# EAGLE library part TLV320AIC3204IRHBT (library LinnesLab-DigitalIC)
Check availability <https://pricing.snapeda.com/parts/TLV320AIC3204IRHBT/Texas%20Instruments/view-part?ref=eda>
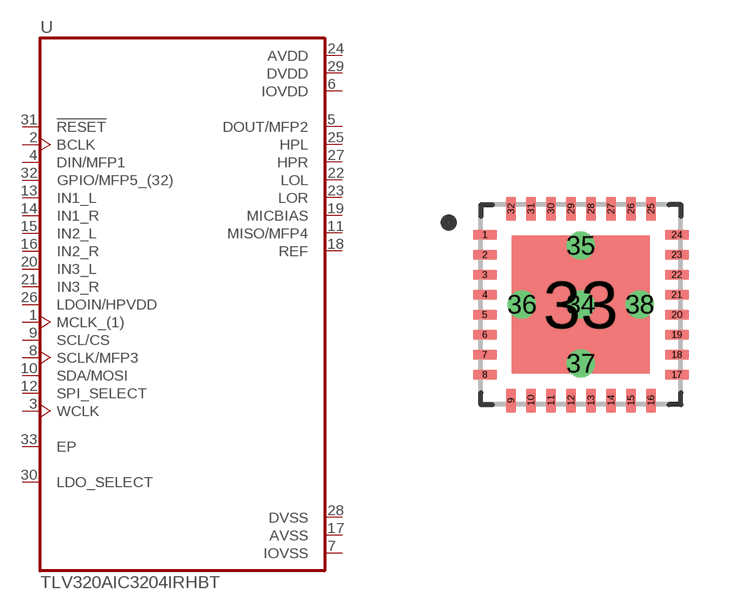
[diagram p29: symbol with the pads of IC_ADS125H01IRHBT; footprint IC_ADS125H01IRHBT]

Designator prefix U

## TLV320AIC3204IRHBT (AVAILABILITY: In Stock; DESCRIPTION: Very-Low-Power Stereo Audio CODEC With PowerTune&trade; Technology; MF: Texas Instruments; MP: TLV320AIC3204IRHBT; PACKAGE: VQFN-32 Texas Instruments; PRICE: None; PURCHASE-URL: https://pricing.snapeda.com/search/part/TLV320AIC3204IRHBT/?ref=eda)  [IC_ADS125H01IRHBT]
1  MCLK_(1)  in
2  BCLK  in
3  WCLK  in
4  DIN/MFP1  in
5  DOUT/MFP2  out
6  IOVDD  pwr
7  IOVSS  pwr
8  SCLK/MFP3  in
9  SCL/CS  in
10  SDA/MOSI  in
11  MISO/MFP4  out
12  SPI_SELECT  in
13  IN1_L  in
14  IN1_R  in
15  IN2_L  in
16  IN2_R  in
17  AVSS  pwr
18  REF  out
19  MICBIAS  out
20  IN3_L  in
21  IN3_R  in
22  LOL  out
23  LOR  out
24  AVDD  pwr
25  HPL  out
26  LDOIN/HPVDD  in
27  HPR  out
28  DVSS  pwr
29  DVDD  pwr
30  LDO_SELECT
31  !RESET  in
32  GPIO/MFP5_(32)  in
33  EP

## Footprint IC_ADS125H01IRHBT (pad centres in mm)
smd 0.6 x 0.25: 1 -2.4,1.75; 2 -2.4,1.25; 3 -2.4,0.75; 4 -2.4,0.25; 5 -2.4,-0.25; 6 -2.4,-0.75; 7 -2.4,-1.25; 8 -2.4,-1.75; 17 2.4,-1.75; 18 2.4,-1.25; 19 2.4,-0.75; 20 2.4,-0.25; 21 2.4,0.25; 22 2.4,0.75; 23 2.4,1.25; 24 2.4,1.75
smd 0.25 x 0.6: 9 -1.75,-2.4; 10 -1.25,-2.4; 11 -0.75,-2.4; 12 -0.25,-2.4; 13 0.25,-2.4; 14 0.75,-2.4; 15 1.25,-2.4; 16 1.75,-2.4; 25 1.75,2.4; 26 1.25,2.4; 27 0.75,2.4; 28 0.25,2.4; 29 -0.25,2.4; 30 -0.75,2.4; 31 -1.25,2.4; 32 -1.75,2.4
smd 3.45 x 3.45: 33 0,0
drill 0.2 pad 0.4: 34 0,0; 35 0,1.475; 36 -1.475,0; 37 0,-1.475; 38 1.475,0